# EAGLE library part 9POSD-SUB (library UpBoard B)
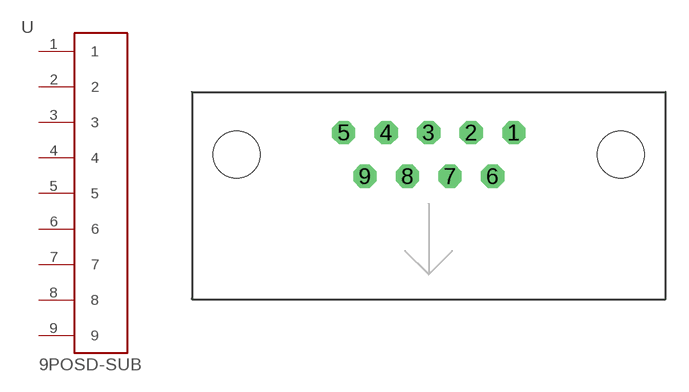
[diagram p4: symbol with the pads of 9POSD-SUB; footprint 9POSD-SUB]

Designator prefix -

## 9POSD-SUB  [9POSD-SUB]
1  1
2  2
3  3
4  4
5  5
6  6
7  7
8  8
9  9

## Footprint 9POSD-SUB (pad centres in mm)
drill 1 octagon: 1 5.54,0; 2 2.77,0; 3 0,0; 4 -2.77,0; 5 -5.54,0; 6 4.16,-2.84; 7 1.39,-2.84; 8 -1.38,-2.84; 9 -4.15,-2.84
hole 3.05 at -12.5,-1.42
hole 3.05 at 12.5,-1.42